# EAGLE library part PT8211 (library IC)
16 Bit Digital to Analog Converter http://www.princeton.com.tw/downloadprocess/downloadfile.asp? mydownload=PT8211.pdf
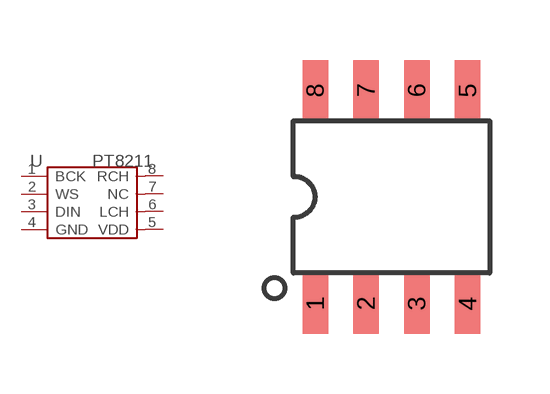
[diagram p10: symbol with the pads of SOP8; footprint SOP8]

Designator prefix U

## PT8211  [SOP8]
1  BCK  in
2  WS  in
3  DIN  in
4  GND  sup
5  VDD  sup
6  LCH  out
7  NC  nc
8  RCH  out

## Footprint SOP8 (pad centres in mm)
SMALL OUTLINE PACKAGE
smd 0.635 x 1.524: 1 -1.905,-2.667; 2 -0.635,-2.667; 3 0.635,-2.667; 4 1.905,-2.667; 5 1.905,2.667; 6 0.635,2.667; 7 -0.635,2.667; 8 -1.905,2.667